# EAGLE library part AD5270BRMZ-100 (library AD5270BRMZ-100)
1024-/256-Position, 1% Resistor Tolerance Error, SPI Interface and 50-TP Memory Digital Rheostat Check prices <https://pricing.snapeda.com/parts/AD5270BRMZ-100/Analog%20Devices/view-part?ref=eda>
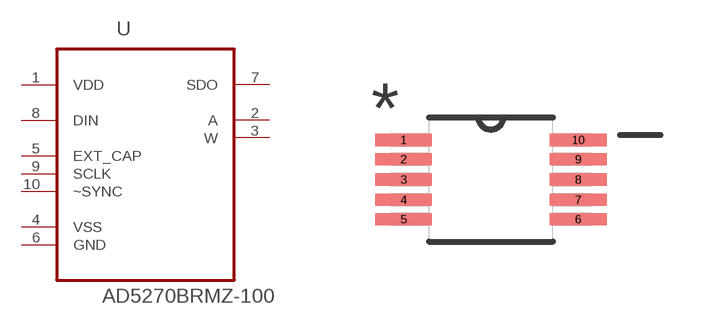
[diagram p0: symbol with the pads of SOP50P490X110-10N; footprint SOP50P490X110-10N]

Designator prefix U

## AD5270BRMZ-100 (Availability: In Stock; Description: Digital Potentiometer 100k Ohm 1 Circuit 1024 Taps SPI Interface 10-MSOP; MF: Analog Devices; MP: AD5270BRMZ-100; Package: MSOP-10 Analog Devices; Price: None)  [SOP50P490X110-10N]
1  VDD  pwr
2  A  pas
3  W  pas
4  VSS  pwr
5  EXT_CAP  pas
6  GND  pas
7  SDO  out
8  DIN  in
9  SCLK  in
10  ~SYNC  in

## Footprint SOP50P490X110-10N (pad centres in mm)
smd 1.422 x 0.305: 1 -2.184,0.991; 2 -2.184,0.508; 3 -2.184,0; 4 -2.184,-0.508; 5 -2.184,-0.991; 6 2.184,-0.991; 7 2.184,-0.508; 8 2.184,0; 9 2.184,0.508; 10 2.184,0.991